# EAGLE library part ATSAMR21B18-MZ210PA-DEV (library atmel-zll)
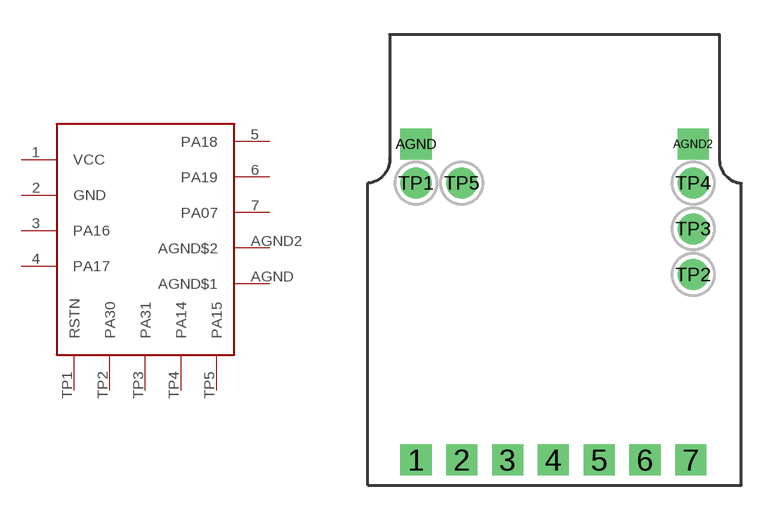
[diagram p1: symbol with the pads of ATSAMR21B18-MZ210PA-DEV; footprint ATSAMR21B18-MZ210PA-DEV]

Designator prefix -

## ATSAMR21B18-MZ210PA-DEV  [ATSAMR21B18-MZ210PA-DEV]
1  VCC
2  GND
3  PA16
4  PA17
5  PA18
6  PA19
7  PA07
AGND  AGND$1
AGND2  AGND$2
TP1  RSTN
TP2  PA30
TP3  PA31
TP4  PA14
TP5  PA15

## Footprint ATSAMR21B18-MZ210PA-DEV (pad centres in mm)
drill 0.85 square: 1 2.1,1.1; 2 4.1,1.1; 3 6.1,1.1; 4 8.1,1.1; 5 10.1,1.1; 6 12.1,1.1; 7 14.1,1.1; AGND 2.1,14.9; AGND2 14.2,14.9
drill 0.85 pad 1.27: TP1 2.1,13.2; TP2 14.2,9.2; TP3 14.2,11.2; TP4 14.2,13.2; TP5 4.1,13.2